# EAGLE library part 8_SEGMENT_DISPLAY (library ventilator)
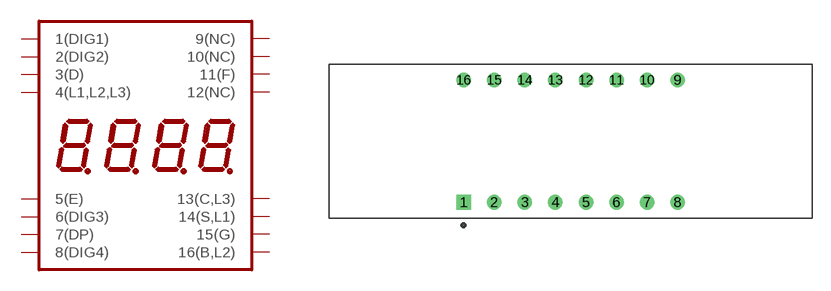
[diagram p1: symbol with the pads of DISPLAY_TDCG1060M; footprint DISPLAY_TDCG1060M]

Designator prefix -

## 8_SEGMENT_DISPLAY  [DISPLAY_TDCG1060M]
1  1(DIG1)
2  2(DIG2)
3  3(D)
4  4(L1,L2,L3)
5  5(E)
6  6(DIG3)
7  7(DP)
8  8(DIG4)
9  9(NC)
10  10(NC)
11  11(F)
12  12(NC)
13  13(C,L3)
14  14(S,L1)
15  15(G)
16  16(B,L2)

## Footprint DISPLAY_TDCG1060M (pad centres in mm)
drill 0.7 pad 1.1 square: 1 -8.89,-5.08
drill 0.7 pad 1.1: 2 -6.35,-5.08; 3 -3.81,-5.08; 4 -1.27,-5.08; 5 1.27,-5.08; 6 3.81,-5.08; 7 6.35,-5.08; 8 8.89,-5.08; 9 8.89,5.08; 10 6.35,5.08; 11 3.81,5.08; 12 1.27,5.08; 13 -1.27,5.08; 14 -3.81,5.08; 15 -6.35,5.08; 16 -8.89,5.08